# Altium schematic symbol library RF.SchLib: 2 symbols
Pins are listed as number, name and electrical type; pins without a type are passive.

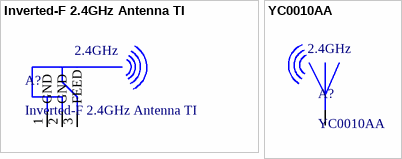
[diagram p0: symbols Inverted-F 2.4GHz Antenna TI to YC0010AA]

## Inverted-F 2.4GHz Antenna TI
designator A?
The 2.4-GHz Inverted F Antenna is a printed-circuit board (PCB) antenna design that can be used with all 2.4-GHz transceivers and transmitters from Texas Instruments™. The maximum gain, when used on the reference board, is measured to be +3.3 dBi, and the overall size requirements for this antenna are 25.7 × 7.5 mm (not including ground plane)
footprint INVERTED-F-ANTENNA-TI
pins: 1 GND, 2 GND, 3 FEED
text: 2.4GHz

## YC0010AA
designator A?
2400 ~ 2500MHz, Wi-Fiï¼ˆBTï¼‰, 5.2*2.0*1.2mm,ceramic SMD Antenna; Manufacturer: Quectel; Frequency: 2.4-2.5GHz; Package: None; Manufacturer Part Number: YC0010AA
footprint XCVR_YC0010AA
pins: 1
text: 2.4GHz